# Altium schematic symbol library DISP,Char,LCD,20x4,204G CC BC-3LP.Schlib: 1 symbol
Pins are listed as number, name and electrical type; pins without a type are passive.

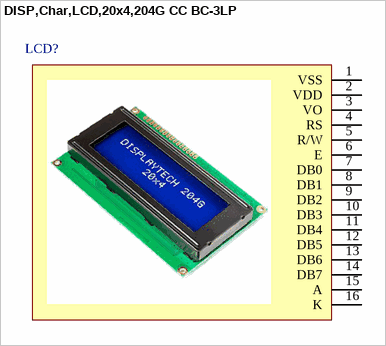
[diagram p0: symbol DISP,Char,LCD,20x4,204G CC BC-3LP]

## DISP,Char,LCD,20x4,204G CC BC-3LP
designator LCD?
pins: 1 VSS (power), 2 VDD (power), 3 VO (power), 4 RS (power), 5 R/W (power), 6 E (power), 7 DB0 (power), 8 DB1 (power), 9 DB2 (power), 10 DB3 (power), 11 DB4 (power), 12 DB5 (power), 13 DB6 (power), 14 DB7 (power), 15 A (power), 16 K (power)